# EAGLE library part EPM7096-P100 (library altera)
EPM7096 MAX 7000 family
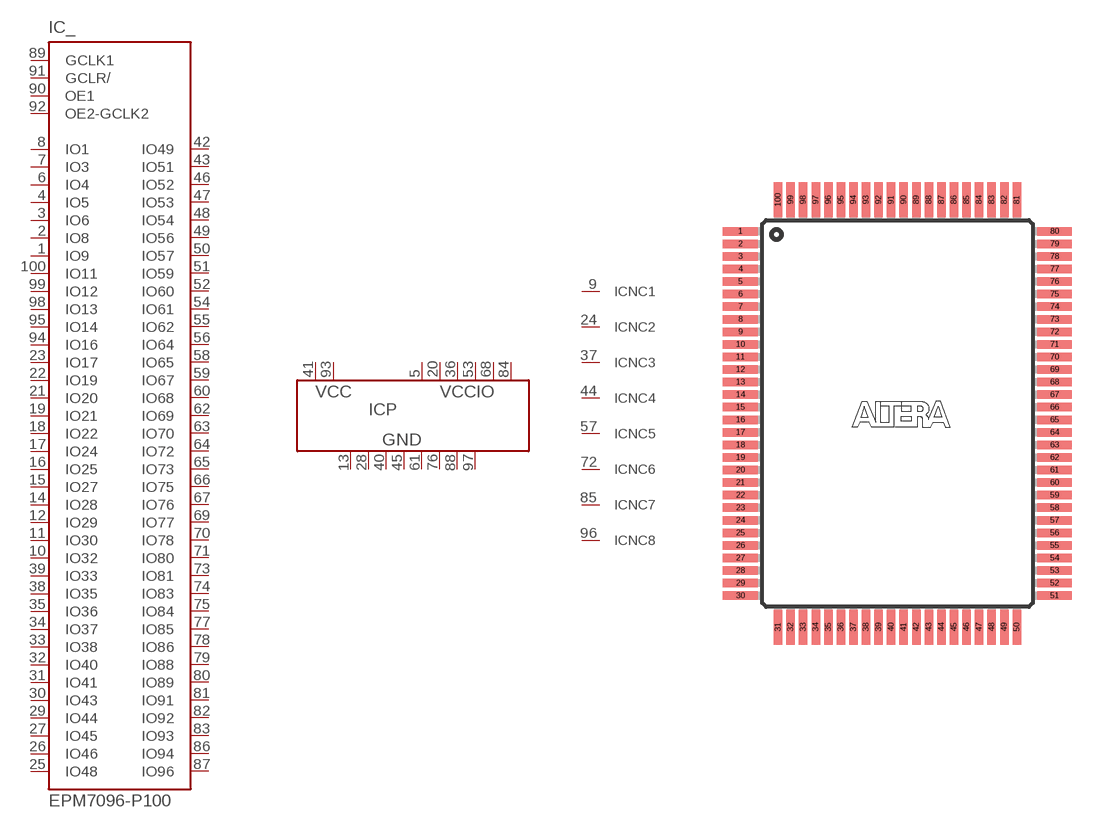
[diagram p8: symbol with the pads of PQFP100; footprint PQFP100]

Designator prefix IC; gates P=PWR8-2-6 NC1=NC NC2=NC NC3=NC NC4=NC NC5=NC NC6=NC NC7=NC NC8=NC _=7096

## EPM7096-P100  [PQFP100]
1  _:IO9
2  _:IO8
3  _:IO6
4  _:IO5
5  P:VCCIO  pwr
6  _:IO4
7  _:IO3
8  _:IO1
9  NC1:NC  nc
10  _:IO32
11  _:IO30
12  _:IO29
13  P:GND  pwr
14  _:IO28
15  _:IO27
16  _:IO25
17  _:IO24
18  _:IO22
19  _:IO21
20  P:VCCIO  pwr
21  _:IO20
22  _:IO19
23  _:IO17
24  NC2:NC  nc
25  _:IO48
26  _:IO46
27  _:IO45
28  P:GND  pwr
29  _:IO44
30  _:IO43
31  _:IO41
32  _:IO40
33  _:IO38
34  _:IO37
35  _:IO36
36  P:VCCIO  pwr
37  NC3:NC  nc
38  _:IO35
39  _:IO33
40  P:GND  pwr
41  P:VCC  pwr
42  _:IO49
43  _:IO51
44  NC4:NC  nc
45  P:GND  pwr
46  _:IO52
47  _:IO53
48  _:IO54
49  _:IO56
50  _:IO57
51  _:IO59
52  _:IO60
53  P:VCCIO  pwr
54  _:IO61
55  _:IO62
56  _:IO64
57  NC5:NC  nc
58  _:IO65
59  _:IO67
60  _:IO68
61  P:GND  pwr
62  _:IO69
63  _:IO70
64  _:IO72
65  _:IO73
66  _:IO75
67  _:IO76
68  P:VCCIO  pwr
69  _:IO77
70  _:IO78
71  _:IO80
72  NC6:NC  nc
73  _:IO81
74  _:IO83
75  _:IO84
76  P:GND  pwr
77  _:IO85
78  _:IO86
79  _:IO88
80  _:IO89
81  _:IO91
82  _:IO92
83  _:IO93
84  P:VCCIO  pwr
85  NC7:NC  nc
86  _:IO94
87  _:IO96
88  P:GND  pwr
89  _:GCLK1  in
90  _:OE1  in
91  _:GCLR/  in
92  _:OE2-GCLK2  in
93  P:VCC  pwr
94  _:IO16
95  _:IO14
96  NC8:NC  nc
97  P:GND  pwr
98  _:IO13
99  _:IO12
100  _:IO11

## Footprint PQFP100 (pad centres in mm)
Plastic Quad Flat Pack
smd 1.8 x 0.44: 1 -8.125,9.425; 2 -8.125,8.775; 3 -8.125,8.125; 4 -8.125,7.475; 5 -8.125,6.825; 6 -8.125,6.175; 7 -8.125,5.525; 8 -8.125,4.875; 9 -8.125,4.225; 10 -8.125,3.575; 11 -8.125,2.925; 12 -8.125,2.275; 13 -8.125,1.625; 14 -8.125,0.975; 15 -8.125,0.325; 16 -8.125,-0.325; 17 -8.125,-0.975; 18 -8.125,-1.625; 19 -8.125,-2.275; 20 -8.125,-2.925; 21 -8.125,-3.575; 22 -8.125,-4.225; 23 -8.125,-4.875; 24 -8.125,-5.525; 25 -8.125,-6.175; 26 -8.125,-6.825; 27 -8.125,-7.475; 28 -8.125,-8.125; 29 -8.125,-8.775; 30 -8.125,-9.425; 51 8.125,-9.425; 52 8.125,-8.775; 53 8.125,-8.125; 54 8.125,-7.475; 55 8.125,-6.825; 56 8.125,-6.175; 57 8.125,-5.525; 58 8.125,-4.875; 59 8.125,-4.225; 60 8.125,-3.575; 61 8.125,-2.925; 62 8.125,-2.275; 63 8.125,-1.625; 64 8.125,-0.975; 65 8.125,-0.325; 66 8.125,0.325; 67 8.125,0.975; 68 8.125,1.625; 69 8.125,2.275; 70 8.125,2.925; 71 8.125,3.575; 72 8.125,4.225; 73 8.125,4.875; 74 8.125,5.525; 75 8.125,6.175; 76 8.125,6.825; 77 8.125,7.475; 78 8.125,8.125; 79 8.125,8.775; 80 8.125,9.425
smd 0.44 x 1.8: 31 -6.175,-11.05; 32 -5.525,-11.05; 33 -4.875,-11.05; 34 -4.225,-11.05; 35 -3.575,-11.05; 36 -2.925,-11.05; 37 -2.275,-11.05; 38 -1.625,-11.05; 39 -0.975,-11.05; 40 -0.325,-11.05; 41 0.325,-11.05; 42 0.975,-11.05; 43 1.625,-11.05; 44 2.275,-11.05; 45 2.925,-11.05; 46 3.575,-11.05; 47 4.225,-11.05; 48 4.875,-11.05; 49 5.525,-11.05; 50 6.175,-11.05; 81 6.175,11.05; 82 5.525,11.05; 83 4.875,11.05; 84 4.225,11.05; 85 3.575,11.05; 86 2.925,11.05; 87 2.275,11.05; 88 1.625,11.05; 89 0.975,11.05; 90 0.325,11.05; 91 -0.325,11.05; 92 -0.975,11.05; 93 -1.625,11.05; 94 -2.275,11.05; 95 -2.925,11.05; 96 -3.575,11.05; 97 -4.225,11.05; 98 -4.875,11.05; 99 -5.525,11.05; 100 -6.175,11.05